# Altium schematic symbol library lorawan_gateway.SchLib: 29 symbols
Pins are listed as number, name and electrical type; pins without a type are passive.

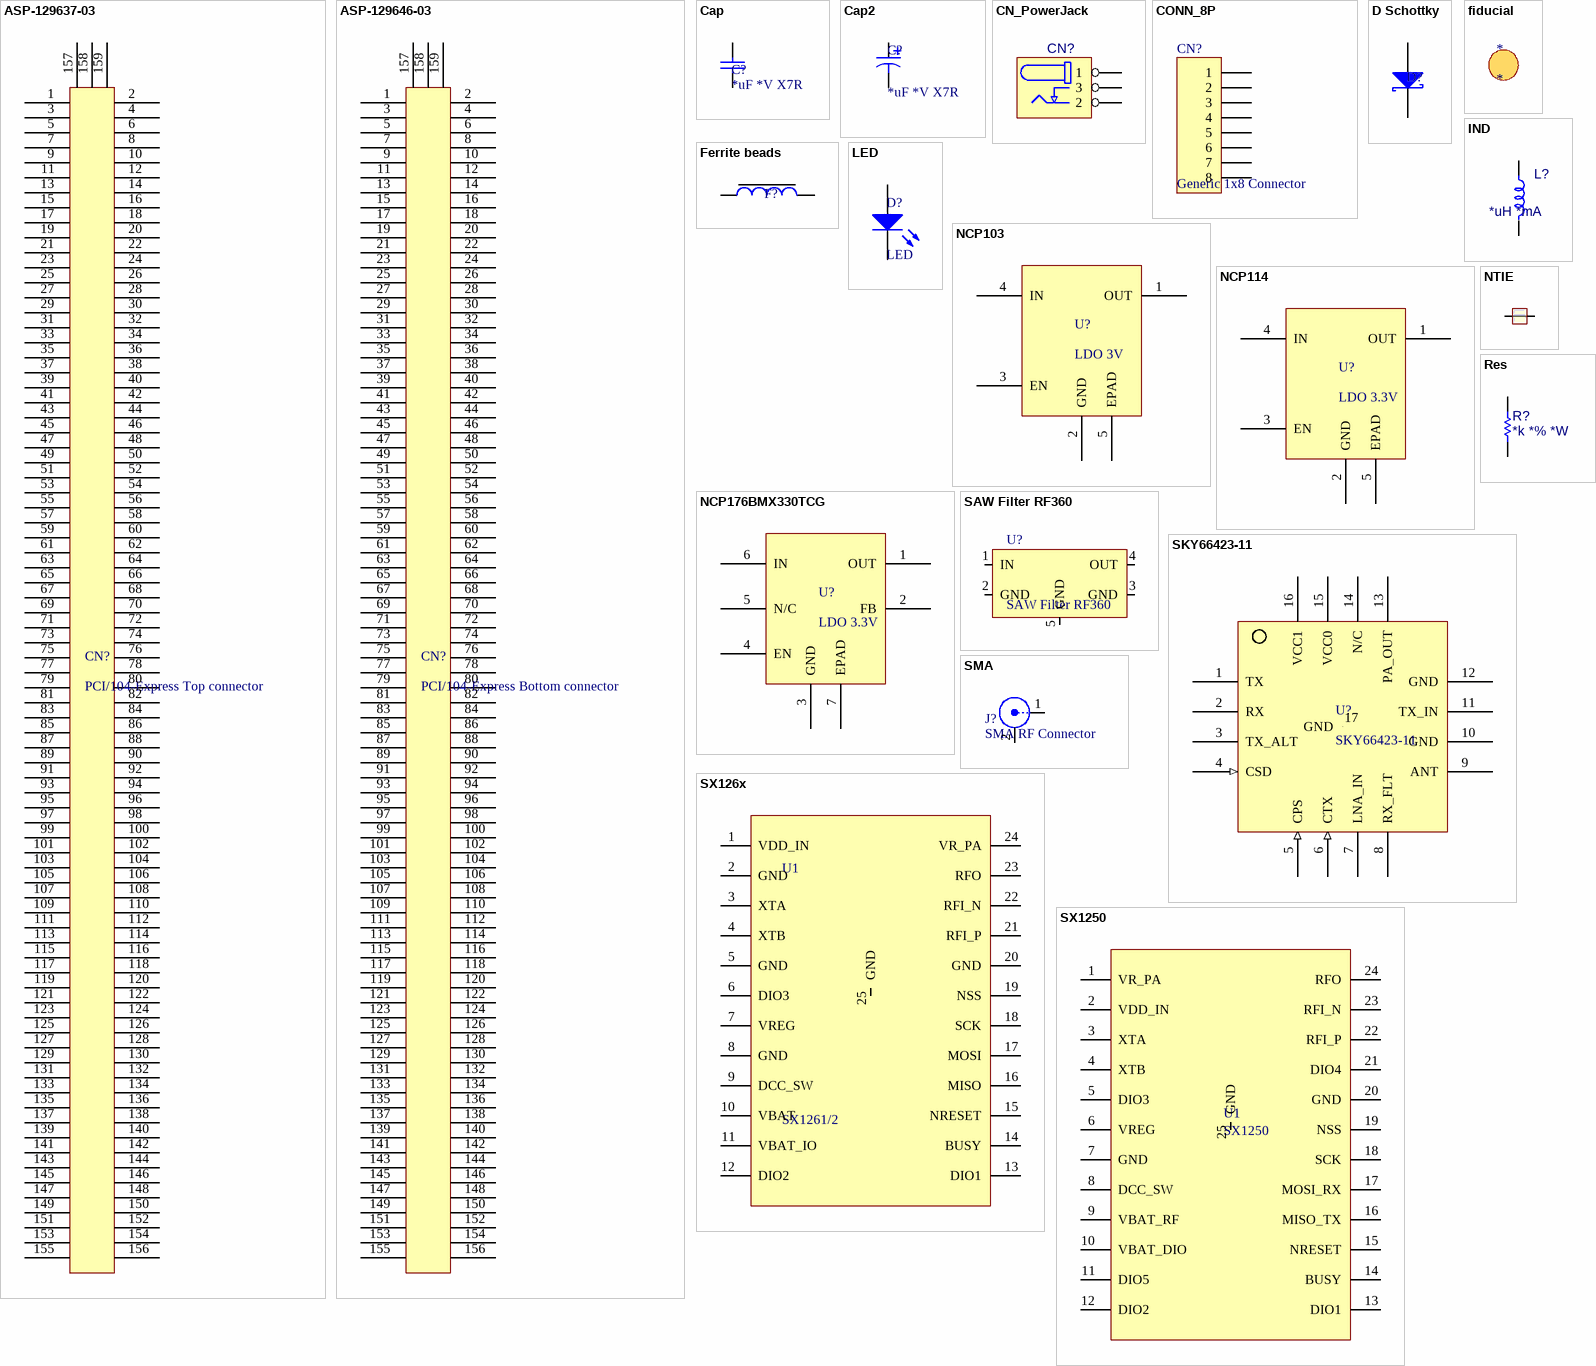
[diagram p0: symbols ASP-129637-03 to SX1250]

## ASP-129637-03
designator CN?, comment PCI/104-Express Top connector
Manufacturer: Samtec Inc.; MPN: ASP-129637-03; ComponentLink1Description: Datasheet; ComponentLink1URL: http://suddendocs.samtec.com/prints/asp-129637-03-mkt.pdf; ComponentLink2Description: SupplierLink; ComponentLink2URL: https://www.digikey.com/en/products/detail/samtec-inc/ASP-129637-03/6561489?s=N4IgTCBcDaIIIGUAKBaAjGAnANgMwHYUAGXEAXQF8g; Package: Connector; Price (USD): 30; Supplier: Digikey; Value: Top
pins: 1, 2, 3, 4, 5, 6, 7, 8, 9, 10, 11, 12, 13, 14, 15, 16, 17, 18, 19, 20, 21, 22, 23, 24, 25, 26, 27, 28, 29, 30, 31, 32, 33, 34, 35, 36, 37, 38, 39, 40, 41, 42, 43, 44, 45, 46, 47, 48, 49, 50, 51, 52, 53, 54, 55, 56, 57, 58, 59, 60, 61, 62, 63, 64, 65, 66, 67, 68, 69, 70, 71, 72, 73, 74, 75, 76, 77, 78, 79, 80, 81, 82, 83, 84, 85, 86, 87, 88, 89, 90, 91, 92, 93, 94, 95, 96, 97, 98, 99, 100, 101, 102, 103, 104, 105, 106, 107, 108, 109, 110, 111, 112, 113, 114, 115, 116, 117, 118, 119, 120, 121, 122, 123, 124, 125, 126, 127, 128, 129, 130, 131, 132, 133, 134, 135, 136, 137, 138, 139, 140, 141, 142, 143, 144, 145, 146, 147, 148, 149, 150, 151, 152, 153, 154, 155, 156, 157, 158, 159

## ASP-129646-03
designator CN?, comment PCI/104-Express Bottom connector
Manufacturer: Samtec Inc.; MPN: ASP-129646-03; ComponentLink1Description: Datasheet; ComponentLink1URL: http://suddendocs.samtec.com/prints/asp-129646-03-mkt.pdf; ComponentLink2Description: SupplierLink; ComponentLink2URL: https://www.digikey.com/es/products/detail/samtec-inc/ASP-129646-03/6561490; Package: Connector; Price (USD): 30; Supplier: Digikey; Value: Bottom
pins: 1, 2, 3, 4, 5, 6, 7, 8, 9, 10, 11, 12, 13, 14, 15, 16, 17, 18, 19, 20, 21, 22, 23, 24, 25, 26, 27, 28, 29, 30, 31, 32, 33, 34, 35, 36, 37, 38, 39, 40, 41, 42, 43, 44, 45, 46, 47, 48, 49, 50, 51, 52, 53, 54, 55, 56, 57, 58, 59, 60, 61, 62, 63, 64, 65, 66, 67, 68, 69, 70, 71, 72, 73, 74, 75, 76, 77, 78, 79, 80, 81, 82, 83, 84, 85, 86, 87, 88, 89, 90, 91, 92, 93, 94, 95, 96, 97, 98, 99, 100, 101, 102, 103, 104, 105, 106, 107, 108, 109, 110, 111, 112, 113, 114, 115, 116, 117, 118, 119, 120, 121, 122, 123, 124, 125, 126, 127, 128, 129, 130, 131, 132, 133, 134, 135, 136, 137, 138, 139, 140, 141, 142, 143, 144, 145, 146, 147, 148, 149, 150, 151, 152, 153, 154, 155, 156, 157, 158, 159

## Cap
designator C?, comment *uF *V X7R
Capacitor; MPN: *; Manufacturer: *; Package: *; Price (USD): *; ComponentLink2Description: SupplierLink; ComponentLink1Description: Datasheet; ComponentLink2URL: *; ComponentLink1URL: *; Value: *
pins: 1, 2

## Cap2
designator C?, comment *uF *V X7R
Polarized Capacitor; MPN: *; Manufacturer: *; Package: *; Price (USD): *; ComponentLink1Description: Datasheet; ComponentLink1URL: *; ComponentLink2Description: SupplierLink; ComponentLink2URL: *; Value: *
pins: 1, 2

## CN_PowerJack
designator CN?, comment Barrel Power Connector  (value not drawn)
CONN PWR JACK 2.5X5.5MM SOLDER; Manufacturer: CUI Devices; MPN: PJ-002B; ComponentLink1Description: Datasheet; ComponentLink2Description: SupplierLink; ComponentLink2URL: https://www.digikey.com/en/products/detail/cui-devices/PJ-002B/96965; Package: Barrel jack connector; Price (USD): 0.71; Supplier: Digikey; Value: CONN PWR JACK 2.5X5.5MM SOLDER
footprint PJ002B
pins: 1, 2, 3

## CONN_8P
designator CN?, comment Generic 1x8 Connector
Connector Generic 8 Vias; ComponentLink1Description: Datasheet; ComponentLink2Description: SupplierLink
footprint Header_M_1x8_0.1" (Header Male 1 x 8 Vias Pitch 100mils)
pins: 1, 2, 3, 4, 5, 6, 7, 8

## D Schottky
designator D?, comment Schottky Diode  (value not drawn)
ComponentLink1Description: Datasheet; ComponentLink2Description: SupplierLink
pins: 1 K, 2 A

## Ferrite beads
designator F?  (value not drawn)
ComponentLink1Description: Datasheet; ComponentLink2Description: SupplierLink
pins: 1, 2

## fiducial
designator *
footprint FIDUCIAL

## IND
designator L?, comment *uH *mA
Inductor; Manufacturer: *; MPN: *; Package: *; Price (USD): *; Value: *; ComponentLink1Description: Datasheet; ComponentLink1URL: *; ComponentLink2Description: SupplierLink; ComponentLink2URL: *
pins: 1, 2

## LED
designator D?
ComponentLink1Description: Datasheet; ComponentLink2Description: SupplierLink
pins: 1 A, 2 K

## NCP103
designator U?, comment LDO 3V
LDO IC Positive Fixed 1 Output 150mA 4-UDFN; Manufacturer: onsemi; MPN: NCP103AMX300TCG; ComponentLink1Description: Datasheet; ComponentLink1URL: https://www.onsemi.com/pdf/datasheet/ncp103-d.pdf; ComponentLink2Description: SupplierLink; ComponentLink2URL: https://www.digikey.com/en/products/detail/onsemi/NCP103AMX300TCG/5022525?s=N4IgTCBcDaIHIGEAKBGADAZgIIFkAaGaaAKggOIgC6AvkA; Package: 4-UDFN (1.0x1.0); Price (USD): 0.07; Supplier: Digikey; Value: LDO 3V
pins: 1 OUT, 2 GND, 3 EN, 4 IN, 5 EPAD

## NCP114
designator U?, comment LDO 3.3V
LDO IC Positive Fixed 1 Output 300mA 4-UDFN (1.0x1.0); Manufacturer: onsemi; MPN: NCP114AMX330TBG; ComponentLink1Description: Datasheet; ComponentLink1URL: https://www.onsemi.com/pdf/datasheet/ncp114-d.pdf; ComponentLink2Description: SupplierLink; ComponentLink2URL: https://www.digikey.com/en/products/detail/onsemi/NCP114AMX330TBG/6166731?s=N4IgTCBcDaIHIGEAKBGFAWAggWQBoGZ8AGAFQCEBxEAXQF8g; Package: 4UDFN; Price (USD): 0.48; Supplier: Digikey; Value: LDO 3.3V
pins: 1 OUT, 2 GND, 3 EN, 4 IN, 5 EPAD

## NCP176BMX330TCG
designator U?, comment LDO 3.3V
LDO IC Positive Fixed 1 Output 500mA 6-XDFN (1.2x1.2); Manufacturer: onsemi; MPN: NCP176BMX330TCG; ComponentLink1Description: Datasheet; ComponentLink1URL: https://www.onsemi.com/pdf/datasheet/ncp176-d.pdf; ComponentLink2Description: SupplierLink; ComponentLink2URL: https://www.digikey.com/en/products/detail/onsemi/NCP176BMX330TCG/5817227?s=N4IgTCBcDaIHIGEAKBGA7ANgEIFkAaAzAQAwAqCA4iALoC%2BQA; Package: 6-XDFN (1.2x1.2); Price (USD): 0.47; Supplier: Digikey; Value: LDO 3.3V
pins: 1 OUT, 2 FB, 3 GND, 4 EN, 5 N/C, 6 IN, 7 EPAD

## NTIE
designator NT?, comment NT  (value not drawn)  (net tie, no BOM)
NET_TIE; ComponentLink1Description: Datasheet; ComponentLink2Description: SupplierLink
pins: 1, 2

## Res
designator R?, comment *k *% *W
Resistor; Manufacturer: *; MPN: *; Package: *; Price (USD): *; Value: *; ComponentLink1Description: Datasheet; ComponentLink1URL: *; ComponentLink2Description: SupplierLink; ComponentLink2URL: *
pins: 1, 2

## SAW Filter RF360
designator U?
ComponentLink1Description: Datasheet; ComponentLink2Description: SupplierLink
pins: 1 IN, 2 GND, 3 GND, 4 OUT, 5 GND

## SKY66423-11
designator U?
SKY66423-11 - 860 to 930MHz Front-End Module; ComponentLink1Description: Datasheet; ComponentLink1URL: https://www.skyworksinc.com/-/media/SkyWorks/Documents/Products/2801-2900/SKY66423_11_204566J.pdf; ComponentLink2Description: SupplierLink; ComponentLink2URL: https://www.digikey.com/en/products/detail/skyworks-solutions-inc/SKY66423-11/9603432
pins: 1 TX, 2 RX, 3 TX_ALT, 4 CSD (in), 5 CPS (in), 6 CTX (in), 7 LNA_IN, 8 RX_FLT, 9 ANT, 10 GND (power), 11 TX_IN, 12 GND (power), 13 PA_OUT, 14 N/C, 15 VCC0 (power), 16 VCC1 (power), 17 GND (power)

## SMA
designator J?, comment SMA RF Connector
CONN SMA JACK STR 50OHM EDGE MNT; Manufacturer: TE Connectivity Aerospace, Defense and Marine; MPN: 1053374-1; Value: SMA female; ComponentLink1Description: Datasheet; ComponentLink2Description: SupplierLink; ComponentLink2URL: https://www.digikey.com/en/products/detail/te-connectivity-aerospace-defense-and-marine/1053374-1/1131391; Package: SMA; Price (USD): 56; Supplier: Digikey
footprint SMA THT connector
pins: 1 Signal "RF signal", 2 GND "Ground signal", 2 GND "Ground signal"

## SX126x
designator U1, comment SX1261/2
SX1261/2 - Ultra low power RF transceiver; ComponentLink1Description: Datasheet; ComponentLink2Description: SupplierLink
pins: 1 VDD_IN (power), 2 GND, 3 XTA, 4 XTB, 5 GND, 6 DIO3, 7 VREG (power), 8 GND, 9 DCC_SW (power), 10 VBAT (power), 11 VBAT_IO (power), 12 DIO2, 13 DIO1, 14 BUSY, 15 NRESET, 16 MISO, 17 MOSI, 18 SCK, 19 NSS, 20 GND, 21 RFI_P, 22 RFI_N, 23 RFO, 24 VR_PA (power), 25 GND

## SX1250
designator U1
SX1250 - Ultra low power RF Front-End; ComponentLink1Description: Datasheet; ComponentLink2Description: SupplierLink
pins: 1 VR_PA (power), 2 VDD_IN, 3 XTA, 4 XTB, 5 DIO3, 6 VREG (power), 7 GND (power), 8 DCC_SW, 9 VBAT_RF (power), 10 VBAT_DIO (power), 11 DIO5, 12 DIO2, 13 DIO1, 14 BUSY, 15 NRESET, 16 MISO_TX, 17 MOSI_RX, 18 SCK, 19 NSS, 20 GND (power), 21 DIO4, 22 RFI_P, 23 RFI_N, 24 RFO, 25 GND (power)

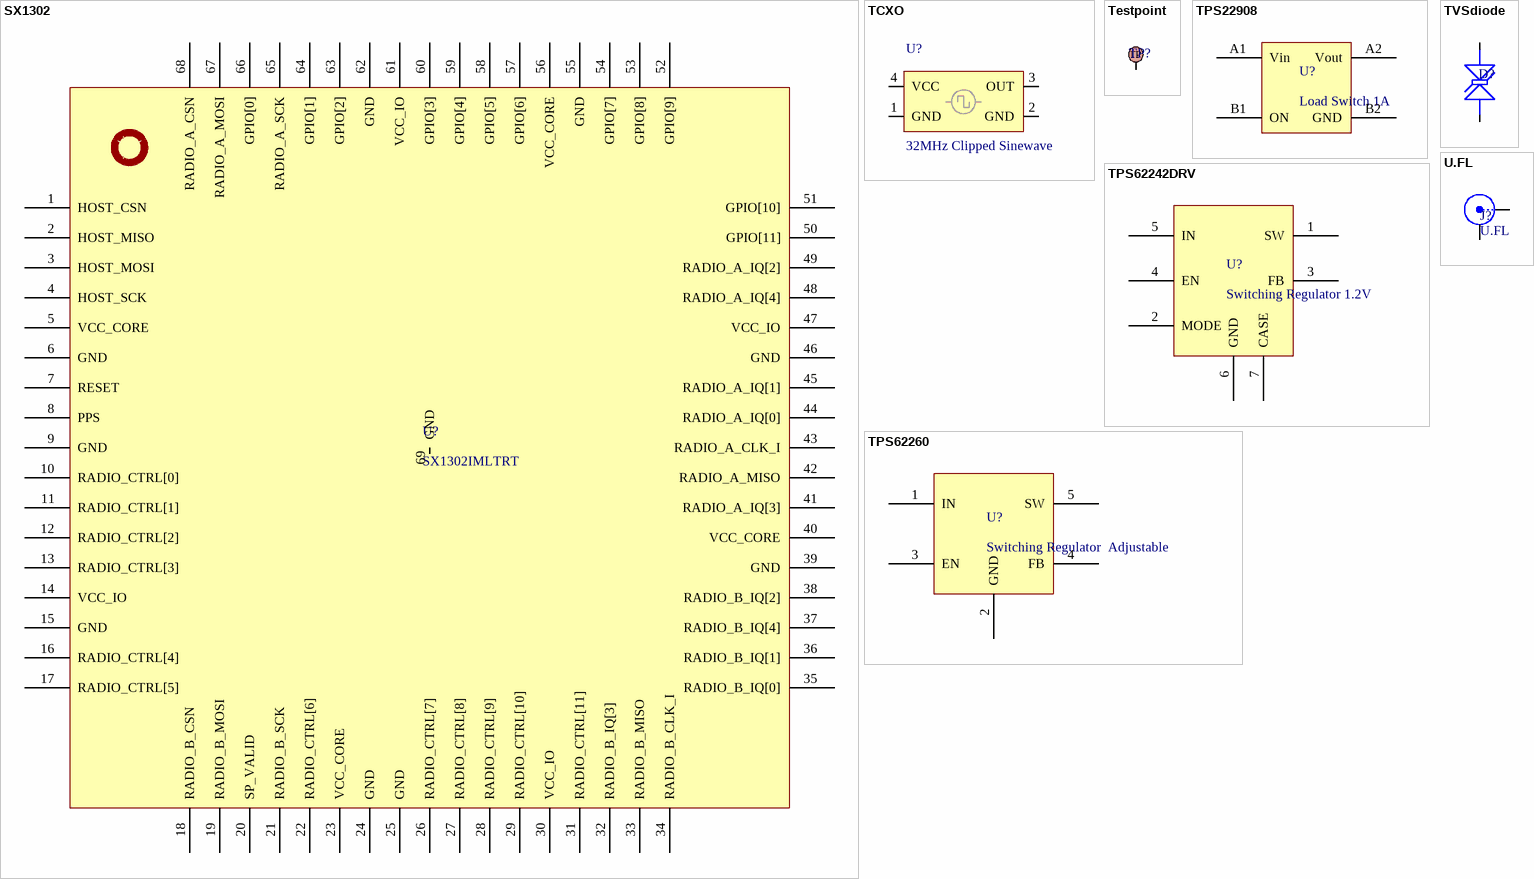
[diagram p1: symbols SX1302 to U.FL]

## SX1302
designator U?, comment SX1302IMLTRT
LoRa Core™ Digital Baseband Chip for LoRaWAN network gateways; Manufacturer: Semtech; MPN: SX1302; Value: SX1302; ComponentLink1Description: Datasheet; ComponentLink1URL: https://media.digikey.com/pdf/Data%20Sheets/Semtech%20PDFs/SX1302_rev1.1_Jan2020.pdf; ComponentLink2Description: SupplierLink; ComponentLink2URL: https://www.digikey.com/en/products/detail/SX1302IMLTRT/600-SX1302IMLTRTCT-ND/10379524?WT.z_cid=ref_netcomponents_dkc_buynow&utm_source=netcomponents&utm_medium=aggregator&utm_campaign=buynow; Package: QFN 7x7mm P=0.35mm; Price (USD): 37.75; Supplier: Digikey
footprint vqfn68_7x7mm (VQFN68 Leads, Body 7.0x7.0mm, Pitch 0.35mm)
pins: 1 HOST_CSN, 2 HOST_MISO, 3 HOST_MOSI, 4 HOST_SCK, 5 VCC_CORE, 6 GND (power), 7 RESET, 8 PPS, 9 GND (power), 10 RADIO_CTRL[0], 11 RADIO_CTRL[1], 12 RADIO_CTRL[2], 13 RADIO_CTRL[3], 14 VCC_IO, 15 GND (power), 16 RADIO_CTRL[4], 17 RADIO_CTRL[5], 18 RADIO_B_CSN, 19 RADIO_B_MOSI, 20 SP_VALID, 21 RADIO_B_SCK, 22 RADIO_CTRL[6], 23 VCC_CORE, 24 GND (power), 25 GND (power), 26 RADIO_CTRL[7], 27 RADIO_CTRL[8], 28 RADIO_CTRL[9], 29 RADIO_CTRL[10], 30 VCC_IO, 31 RADIO_CTRL[11], 32 RADIO_B_IQ[3], 33 RADIO_B_MISO, 34 RADIO_B_CLK_I, 35 RADIO_B_IQ[0], 36 RADIO_B_IQ[1], 37 RADIO_B_IQ[4], 38 RADIO_B_IQ[2], 39 GND (power), 40 VCC_CORE, 41 RADIO_A_IQ[3], 42 RADIO_A_MISO, 43 RADIO_A_CLK_I, 44 RADIO_A_IQ[0], 45 RADIO_A_IQ[1], 46 GND (power), 47 VCC_IO, 48 RADIO_A_IQ[4], 49 RADIO_A_IQ[2], 50 GPIO[11], 51 GPIO[10], 52 GPIO[9], 53 GPIO[8], 54 GPIO[7], 55 GND (power), 56 VCC_CORE, 57 GPIO[6], 58 GPIO[5], 59 GPIO[4], 60 GPIO[3], 61 VCC_IO, 62 GND (power), 63 GPIO[2], 64 GPIO[1], 65 RADIO_A_SCK, 66 GPIO[0], 67 RADIO_A_MOSI, 68 RADIO_A_CSN, 69 GND (power)

## TCXO
designator U?, comment 32MHz Clipped Sinewave
32MHz TCXO - Clipped Sinewave Output; ComponentLink1Description: Datasheet; ComponentLink2Description: SupplierLink
pins: 1 GND, 2 GND, 3 OUT, 4 VCC

## Testpoint
designator TP?, comment Single Pin Test Point  (value not drawn)  (no BOM)
ComponentLink1Description: Datasheet; ComponentLink2Description: SupplierLink
pins: 0
text: TP

## TPS22908
designator U?, comment Load Switch 1A
IC PWR SWITCH P-CHAN 1:1 4DSBGA; Manufacturer: Texas Instruments; MPN: TPS22908YZTR; ComponentLink1Description: Datasheet; ComponentLink1URL: https://www.ti.com/lit/ds/symlink/tps22908.pdf?HQS=dis-dk-null-digikeymode-dsf-pf-null-wwe&ts=1656024214100&ref_url=https%253A%252F%252Fwww.ti.com%252Fgeneral%252Fdocs%252Fsuppproductinfo.tsp%253FdistId%253D10%2526gotoUrl%253Dhttps%253A%252F%252Fwww.ti.com%252Flit%252Fgpn%252Ftps22908; ComponentLink2Description: SupplierLink; ComponentLink2URL: https://www.digikey.com/en/products/detail/texas-instruments/TPS22908YZTR/3533112; Package: 4-DSBGA (0.9x0.9); Price (USD): 0.67; Supplier: Digikey; Value: IC PWR SWITCH P-CHAN 1:1 4DSBGA
pins: A1 Vin, A2 Vout, B1 ON, B2 GND

## TPS62242DRV
designator U?, comment Switching Regulator 1.2V
Switching Regulator IC Positive Fixed 1.2V 1 Output 300mA 6-WDFN; Manufacturer: Texas Instruments; MPN: TPS62242DRVT; ComponentLink1Description: Datasheet; ComponentLink1URL: https://www.ti.com/lit/ds/symlink/tps62242.pdf?HQS=dis-dk-null-digikeymode-dsf-pf-null-wwe&ts=1656025395113; ComponentLink2Description: SupplierLink; ComponentLink2URL: https://www.digikey.com/en/products/detail/texas-instruments/TPS62242DRVT/1739884; Package: 6-WDFN Exposed Pad; Price (USD): 1.66; Supplier: Digikey; Value: Switching Regulator 1.2V
pins: 1 SW, 2 MODE, 3 FB, 4 EN, 5 IN, 6 GND, 7 CASE

## TPS62260
designator U?, comment Switching Regulator  Adjustable
Switching Regulator IC Positive Adjustable 0.6V 1 Output 600mA SOT-23-5; Manufacturer: Texas Instruments; MPN: TPS62260DDCT; ComponentLink1Description: Datasheet; ComponentLink1URL: https://www.ti.com/lit/ds/symlink/tps62263.pdf?HQS=dis-dk-null-digikeymode-dsf-pf-null-wwe&ts=1655992379585; ComponentLink2Description: SupplierLink; ComponentLink2URL: https://www.digikey.com/en/products/detail/texas-instruments/TPS62260DDCT/1666627; Package: TSOT-23-5; Price (USD): 1.83; Supplier: Digikey; Value: Switching Regulator  Adjustable
pins: 1 IN, 2 GND, 3 EN, 4 FB, 5 SW

## TVSdiode
designator D?, comment TVS Diode  (value not drawn)
LXES Series - ESD Protection Device - Ultra Low Capacitance; ComponentLink1Description: Datasheet; ComponentLink2Description: SupplierLink
pins: 1 A, 2 K

## U.FL
designator J?
U.FL Hirose RF Connector; ComponentLink1Description: Datasheet; ComponentLink2Description: SupplierLink
pins: 1 Signal "RF signal", 2 GND "Ground signal", 3 GND "Ground signal"